# Altium footprint library PCB - LEADED - SOT-23 - DIODES INC DMN3066LQ.PcbLib: 1 footprints
Each footprint in its own frame and in the unit in brackets; x right, y up, seen from the top. Pads: shape width x height; smd on the part's side, far side on the other; paste and mask are expansions set on the pad; w line width, h text height; cw(c..) or ccw(c..) is an arc to the next point about the centre after c.
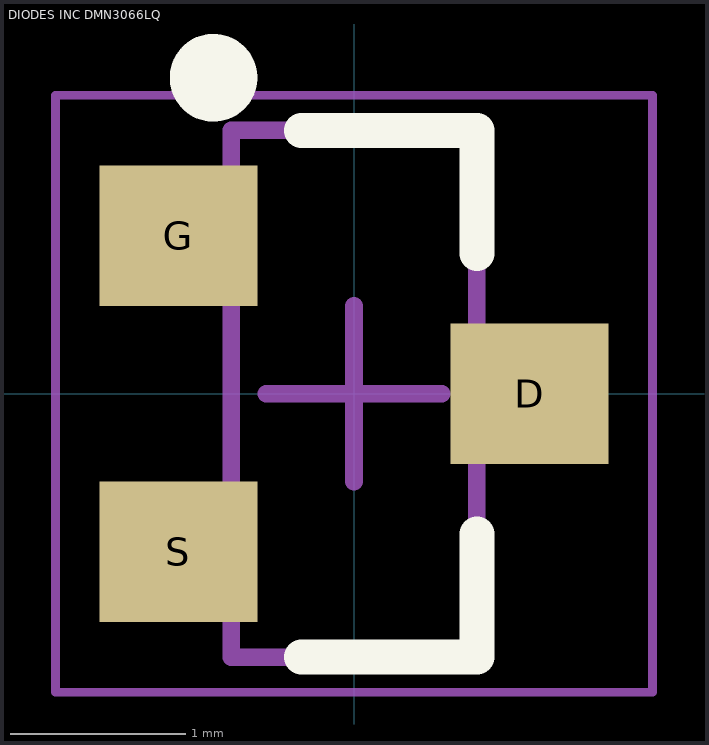
[diagram p0: the footprint, top view; thin cyan lines are the x and y axes]

## DIODES INC DMN3066LQ [mm] "SOT23, 3-Leads, Body 2.90x2.40mm, Pitch 0.90mm"
height 1.1
pads (3):
  rect 0.9x0.8 smd: D(1,0) G(-1,0.9) S(-1,-0.9)
Top Overlay:
  circle w0.25: c-0.8,1.8 r0.125
  lines w0.2: -0.3,-1.5 0.7,-1.5 0.7,-0.8 ; -0.3,1.5 0.7,1.5 0.7,0.8
Mechanical 13:
  lines w0.1: -0.7,-1.5 0.7,-1.5 0.7,1.5 -0.7,1.5 -0.7,-1.5
Mechanical 15:
  lines w0.05: -1.7,-1.7 1.7,-1.7 1.7,1.7 -1.7,1.7 -1.7,-1.7
  lines w0.1: -0.5,0 0.5,0 ; 0,-0.5 0,0.5
3D body "DIODES INC DMN3066LQ.step": height 1.1, standoff 0, extent -1.25,-1.5 1.25,1.5